# Altium footprint library Button_Switch_SMD.PcbLib: 1 footprints
Each footprint in its own frame and in the unit in brackets; x right, y up, seen from the top. Pads: shape width x height; smd on the part's side, far side on the other; paste and mask are expansions set on the pad; w line width, h text height; cw(c..) or ccw(c..) is an arc to the next point about the centre after c.
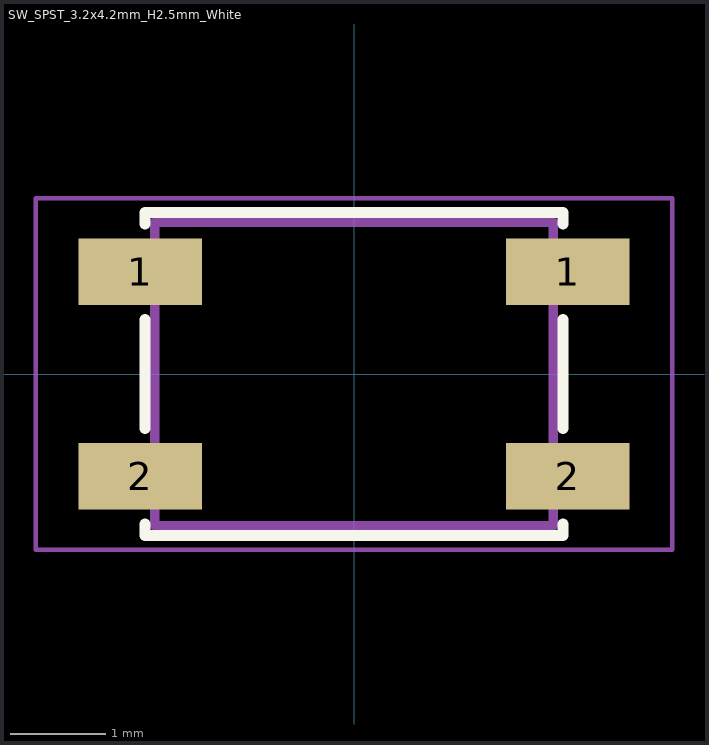
[diagram p0: the footprint, top view; thin cyan lines are the x and y axes]

## SW_SPST_3.2x4.2mm_H2.5mm_White [mm]
pads (4):
  rect 1.3x0.7 smd: 1(-2.25,1.075) 1(2.25,1.075) 2(-2.25,-1.075) 2(2.25,-1.075)
Top Overlay:
  lines w0.12: -2.2,-1.58 -2.2,-1.7 2.2,-1.7 2.2,-1.58 ; -2.2,-0.57 -2.2,0.57 ; -2.2,1.58 -2.2,1.7 2.2,1.7 2.2,1.58 ; 2.2,-0.57 2.2,0.57
Mechanical 13:
  lines w0.1: -2.1,-1.6 -2.1,1.6 2.1,1.6 2.1,-1.6 -2.1,-1.6
Mechanical 15:
  lines w0.05: -3.35,-1.85 3.35,-1.85 3.35,1.85 -3.35,1.85 -3.35,-1.85
3D body "SW_SPST_3.2x4.2mm_H2.5mm_White v1.step": height 2.5, standoff 0, extent -2.6,-1.625 2.6,1.625